# EAGLE library part 74099-08 (library con-molex-c-grid)
C-Grid SL
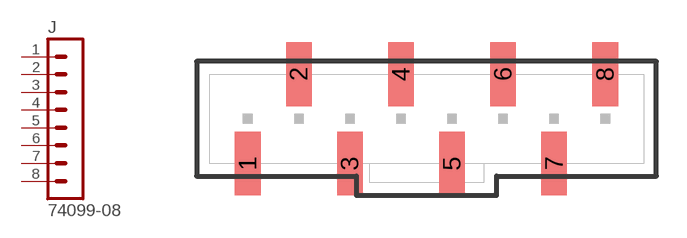
[diagram p42: symbol with the pads of 74099-08; footprint 74099-08]

Designator prefix J

## 74099-08  [74099-08]
1  1  pas
2  2  pas
3  3  pas
4  4  pas
5  5  pas
6  6  pas
7  7  pas
8  8  pas

## Footprint 74099-08 (pad centres in mm)
C-Grid SL vertical, SMD
smd 1.27 x 3.175: 1 -8.89,-2.223; 2 -6.35,2.223; 3 -3.81,-2.223; 4 -1.27,2.223; 5 1.27,-2.223; 6 3.81,2.223; 7 6.35,-2.223; 8 8.89,2.223